# Altium integrated library Linear Technology PMIC-Switching Reg LTC1174-LTC3901.IntLib: 2647 symbols (part 108 of 310)
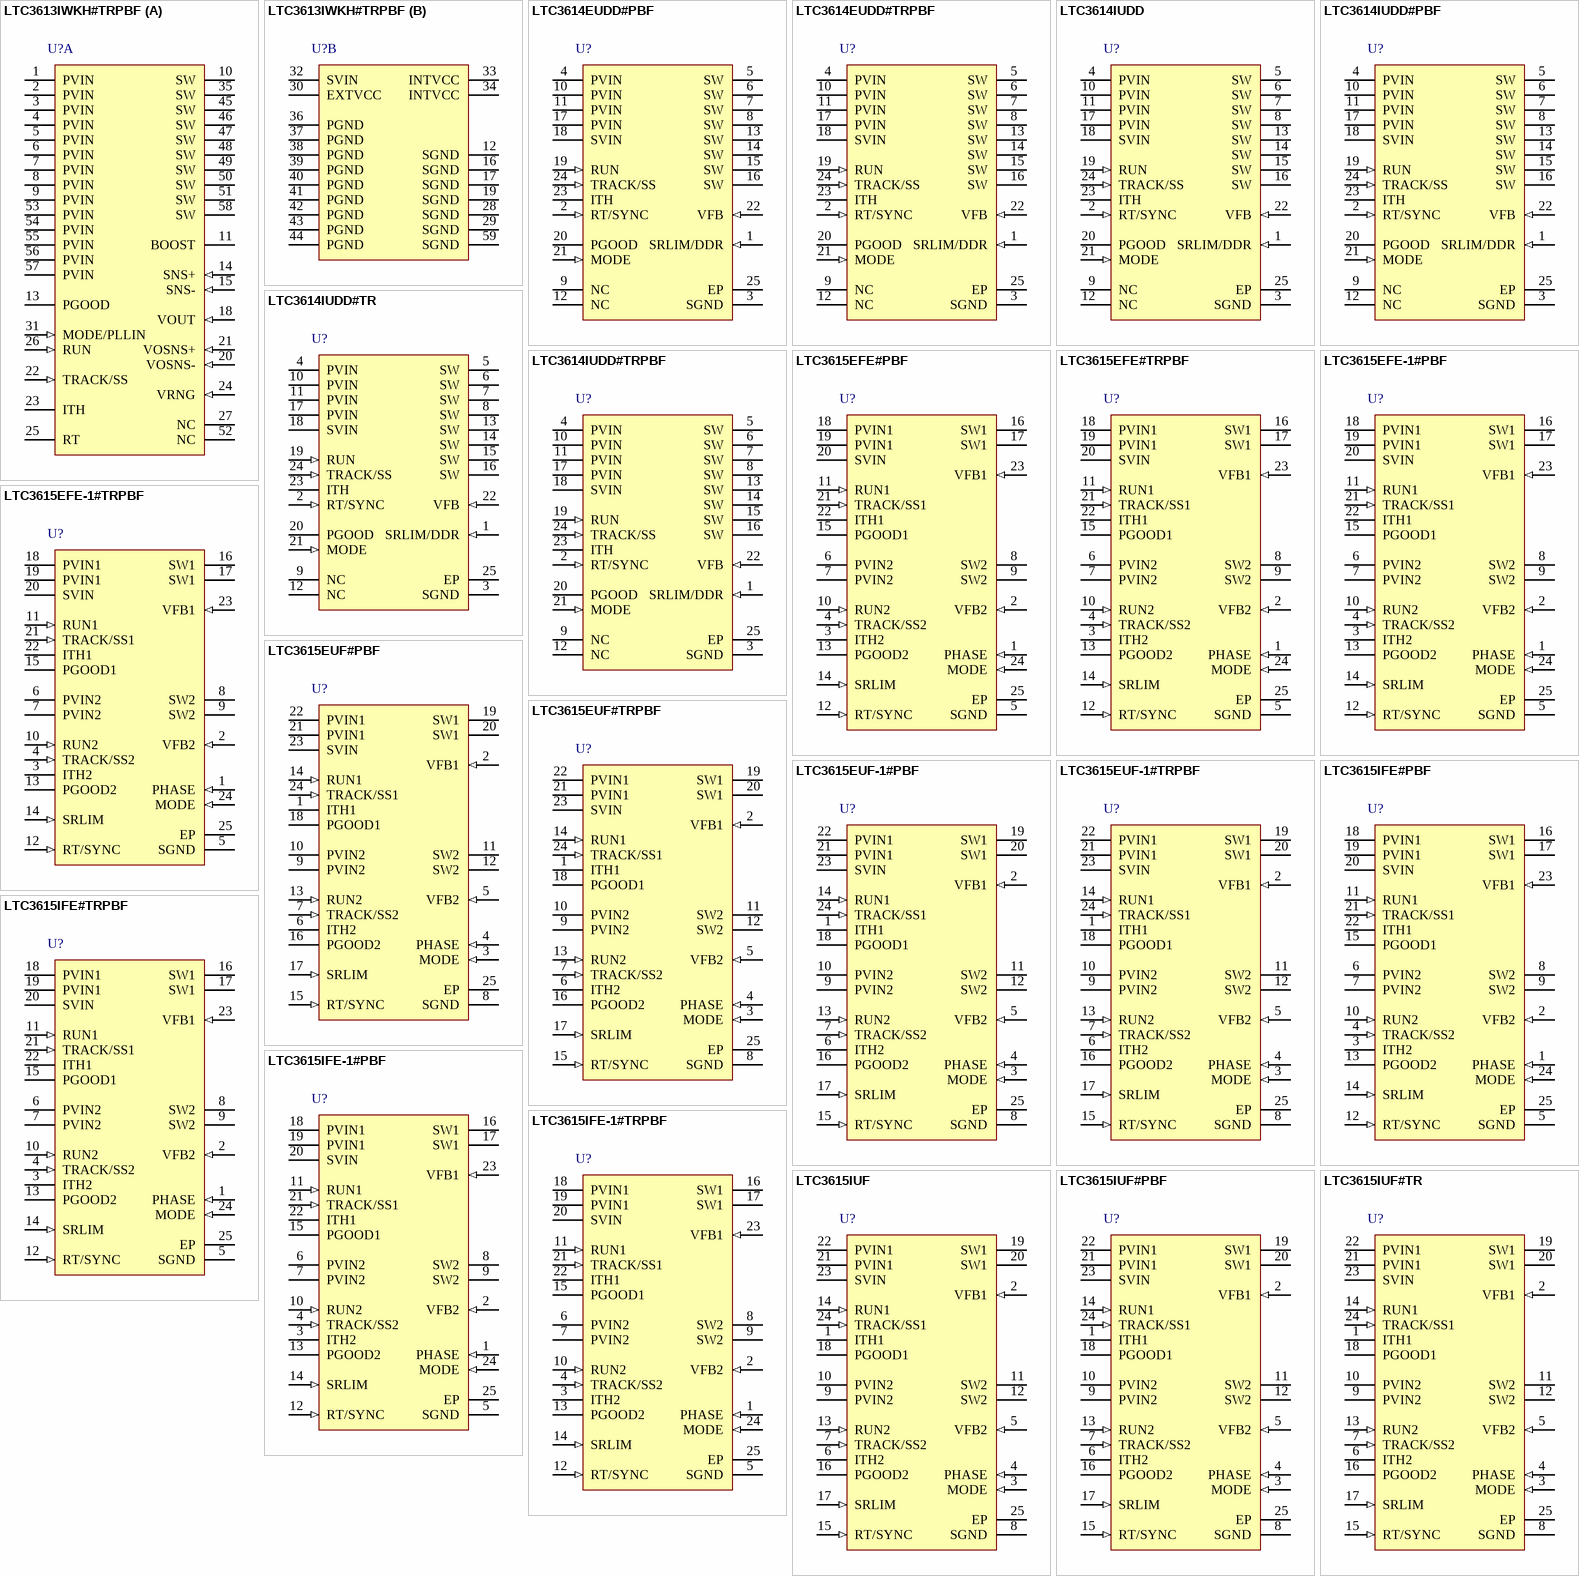
[diagram p277: symbols LTC3613IWKH#TRPBF to LTC3615IUF#TR]

## LTC3614EUDD#TRPBF
designator U?
4 A, 4 MHz Monolithic Synchronous Step-Down DC/DC Converter, 24-pin QFN (UDD-24), -40 to 125 degC, Pb-Free, Tape and Reel; Manufacturer: Linear Technology; PartNumber: LTC3614EUDD#TRPBF; Number of Outputs: 1; PackageReference: UDD-24; PackageDescription: 24-Pin Plastic QFN, Body 5 x 3 mm, Pitch 0.5 mm; Supplier 1: Digi-Key; Supplier Part Number 1: LTC3614EUDD#TRPBF-ND; RoHS: TRUE
footprint LT-UDD-24_N (QFN, 24-Leads, Body 5.1x3.1mm, Pitch 0.5mm, Thermal Pad 3.65x1.65mm, IPC Medium Density)
footprint LT-UDD-24_L (QFN, 24-Leads, Body 5.1x3.1mm, Pitch 0.5mm, Thermal Pad 3.65x1.65mm, IPC High Density)
footprint LT-UDD-24_M (QFN, 24-Leads, Body 5.1x3.1mm, Pitch 0.5mm, Thermal Pad 3.65x1.65mm, IPC Low Density)
pins: 1 SRLIM/DDR (in) "Slew Rate Limit. Tying this pin to ground selects maximum slew rate. Minimum slew rate is selected when the pin is open. Connecting a resistor from SRLIM/DDR to ground allows the slew rate to be continuously adjusted. If (See Datasheet)", 2 RT/SYNC (in), 3 SGND (power) "Signal Ground. All small-signal and compensation components should connect to this ground, which in turn should connect to PGND at a single point.", 4 PVIN (power) "Power Input Supply. PVIN connects to the source of the internal P-channel power MOSFET. This pin is independent of SVIN and may be connected to the same voltage or to a lower voltage supply.", 5 SW (power) "Switch Node. Connection to the inductor. These pins connect to the drains of the internal synchronous power MOSFET switches.", 6 SW (power) "Switch Node. Connection to the inductor. These pins connect to the drains of the internal synchronous power MOSFET switches.", 7 SW (power) "Switch Node. Connection to the inductor. These pins connect to the drains of the internal synchronous power MOSFET switches.", 8 SW (power) "Switch Node. Connection to the inductor. These pins connect to the drains of the internal synchronous power MOSFET switches.", 9 NC "Can be connected to ground or left open.", 10 PVIN (power) "Power Input Supply. PVIN connects to the source of the internal P-channel power MOSFET. This pin is independent of SVIN and may be connected to the same voltage or to a lower voltage supply.", 11 PVIN (power) "Power Input Supply. PVIN connects to the source of the internal P-channel power MOSFET. This pin is independent of SVIN and may be connected to the same voltage or to a lower voltage supply.", 12 NC "Can be connected to ground or left open.", 13 SW (power) "Switch Node. Connection to the inductor. These pins connect to the drains of the internal synchronous power MOSFET switches.", 14 SW (power) "Switch Node. Connection to the inductor. These pins connect to the drains of the internal synchronous power MOSFET switches.", 15 SW (power) "Switch Node. Connection to the inductor. These pins connect to the drains of the internal synchronous power MOSFET switches.", 16 SW (power) "Switch Node. Connection to the inductor. These pins connect to the drains of the internal synchronous power MOSFET switches.", 17 PVIN (power) "Power Input Supply. PVIN connects to the source of the internal P-channel power MOSFET. This pin is independent of SVIN and may be connected to the same voltage or to a lower voltage supply.", 18 SVIN (power) "Signal Input Supply. This pin powers the internal control circuitry and is monitored by the undervoltage lockout comparator.", 19 RUN (in), 20 PGOOD (oc) "Power Good. This open-drain output is pulled down to SGND on start-up and while the FB voltage is outside the power good voltage window. If the FB voltage increases and stays inside the power good window for more than 100us (See Datasheet)", 21 MODE (in) "Mode Selection. Tying the MODE pin to SVIN or SGND enables pulse-skipping mode or Burst  Mode operation (with an internal Burst Mode clamp),  respectively. If this pin is held at slightly higher than half of SVIN, forced (See Datasheet)", 22 VFB (in) "Voltage Feedback Input Pin. Senses the feedback voltage from the external resistive divider across the output.", 23 ITH "Error Amplifier Compensation. The current  comparator's threshold increases with this control voltage. Tying this pin to SVIN enables internal compensation  and AVP mode.", 24 TRACK/SS (in) "Track/External Soft-Start/External  Reference. Start-up behavior is programmable with the TRACK/SS pin: 1. Tying this pin to SVIN selects the internal soft-start circuit. 2. External soft-start timing can be programmed with (See Datasheet)", 25 EP (power) "Power Ground. This pin  connects to the source of the internal N-channel power  MOSFET. This pin should be connected close to the (-)  terminal of CIN and COUT"